# Altium footprint library B105misc.PcbLib: 24 footprints (part 2 of 2)
Each footprint in its own frame and in the unit in brackets; x right, y up, seen from the top. Pads: shape width x height; smd on the part's side, far side on the other; paste and mask are expansions set on the pad; w line width, h text height; cw(c..) or ccw(c..) is an arc to the next point about the centre after c.
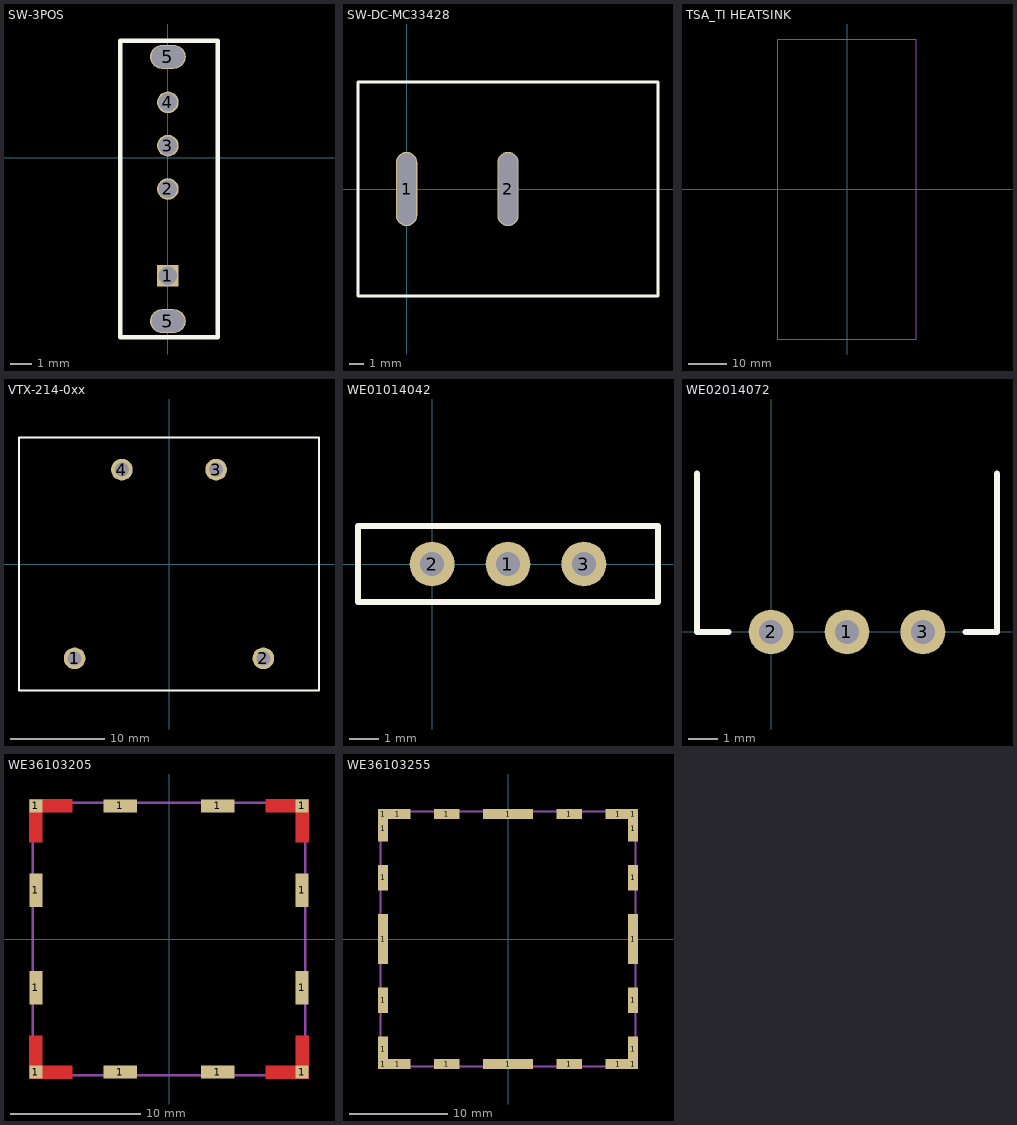
[diagram p1: the footprints below, top view; thin cyan lines are the x and y axes]

## SW-3POS [mm]
pads (6):
  rect 1x1 hole 0.85: 1(0,-5.45)
  round 1 hole 0.85: 2(0,-1.45) 3(0,0.55) 4(0,2.55)
  oval 1.65x1.1 hole 1 slot 1.5 at 0 deg: 5(0,-7.55) 5(0,4.65)
Top Overlay:
  lines w0.2: -2.2,-8.3 2.3,-8.3 2.3,5.4 -2.2,5.4 -2.2,-8.3
3D body "3pos_Switch_OS103011MA7QP1.step": height 4.7, standoff -3.8, extent -2.15,-7.75 6.15,4.85

## SW-DC-MC33428 [mm]
pads (2):
  oval 1.5x5.2 hole 1.3 slot 5 at 90 deg: 1(0,0) 2(7.1,0)
Top Overlay:
  lines w0.2: -3.4,-7.5 -3.4,7.5 17.6,7.5 17.6,-7.5 -3.4,-7.5
3D body: height 15, standoff 0, extent -3.3,-7.4 17.5,7.4

## TSA_TI HEATSINK [mm]
Mechanical 13:
  lines w0.254: -18,-39 0,-39 18,-39 18,39 -18,39 -18,-39
3D body: height 37.2, standoff 1.6, extent -9.5,-39 -7.5,39
3D body: height 37.2, standoff 1.6, extent 7.5,-39 9.5,39
3D body: height 37.2, standoff 1.6, extent 16,-39 18,39
3D body: height 3, standoff 1.6, extent -18,-39 18,39
3D body: height 37.2, standoff 1.6, extent -18,-39 -16,39
3D body: height 37.2, standoff 1.6, extent -1,-39 1,39

## VTX-214-0xx [mm] "AC-DC Converter"
height 19.5
pads (4):
  round 2.3 hole 1.5: 1(-10,-10) 2(10,-10) 3(5,10) 4(-5,10)
Top Overlay:
  lines w0.2: -15.9,-13.4 15.9,-13.4 15.9,13.4 -15.9,13.4 -15.9,-13.4
3D body "VTX-214-005.step": height 19.51, standoff -3.5, extent -15.9,-13.4 15.9,13.4

## WE01014042 [mm] "Connector; Header; 2 Position"
height 6.4
pads (3):
  round 1.5 hole 0.8: 1(2.54,0) 2(0,0) 3(5.08,0)
Top Overlay:
  lines w0.2: -2.48,-1.27 -2.48,1.27 7.56,1.27 7.56,-1.27 -2.48,-1.27
3D body "WE01014042.stp": height 6.4, standoff -5, extent -2.46,-1.25 7.54,1.25

## WE02014072 [mm] "Connector; Header; 2 Position"
height 2.5
pads (3):
  round 1.5 hole 0.8: 1(2.54,0) 2(0,0) 3(5.08,0)
Top Overlay:
  lines w0.2: -2.48,5.3 -2.48,0 -1.42,0 ; 6.5,0 7.56,0 7.56,5.3
3D body "WE02014072.stp": height 2.51, standoff -3.69, extent -2.46,-0.3 7.54,6.8

## WE36103205 [mm] "SMD frame for metal shield 20mm x 20mm"
height 3
pads (12):
  rect 1x1 smd paste-0.5: 1(-10.25,-10.25) 1(-10.25,10.25) 1(10.25,-10.25) 1(10.25,10.25)
  rect 1x2.6 smd paste-0.5: 1(-10.25,-3.75) 1(-10.25,3.75) 1(10.25,-3.75) 1(10.25,3.75)
  rect 2.6x1 smd paste-0.5: 1(-3.75,-10.25) 1(-3.75,10.25) 1(3.75,-10.25) 1(3.75,10.25)
Top Layer:
  region: -10.75,10.75 -7.45,10.75 -7.45,9.75 -9.75,9.75 -9.75,7.45 -10.75,7.45
  region: -10.75,-10.75 -10.75,-7.45 -9.75,-7.45 -9.75,-9.75 -7.45,-9.75 -7.45,-10.75
  region: 10.75,-10.75 7.45,-10.75 7.45,-9.75 9.75,-9.75 9.75,-7.45 10.75,-7.45
  region: 10.75,10.75 10.75,7.45 9.75,7.45 9.75,9.75 7.45,9.75 7.45,10.75
Mechanical 13:
  lines w0.2: -10.5,-10.5 10.5,-10.5 10.5,10.5 -10.5,10.5 -10.5,-10.5
3D body "WE36103205.stp": height 4, standoff 0.5, extent -10.5,-10.5 10.5,10.5

## WE36103255 [mm] "SMD frame for metal shield 26.5mm x 26.5mm"
height 3
pads (24):
  rect 1x1 smd paste-0.5: 1(-12.75,-12.75) 1(-12.75,12.75) 1(12.75,-12.75) 1(12.75,12.75)
  rect 1x2.6 smd paste-0.5: 1(-12.75,-11.25) 1(-12.75,-6.25) 1(-12.75,6.25) 1(-12.75,11.25) 1(12.75,-6.25) 1(12.75,6.25) 1(12.75,11.25) 1(12.75,-11.25)
  rect 1x5.1 smd paste-0.5: 1(-12.75,0) 1(12.75,0)
  rect 2.6x1 smd paste-0.5: 1(-11.25,-12.75) 1(-11.25,12.75) 1(-6.25,-12.75) 1(-6.25,12.75) 1(6.25,-12.75) 1(6.25,12.75) 1(11.25,-12.75) 1(11.25,12.75)
  rect 5.1x1 smd paste-0.5: 1(0,-12.75) 1(0,12.75)
Mechanical 13:
  lines w0.2: -13,-13 13,-13 13,13 -13,13 -13,-13
3D body "WE36103255-rev1.stp": height 3.48, standoff -0.02, extent -13,-13 13,13